# Altium footprint library DIP794W46P254L2967H457Q28B.PcbLib: 1 footprints
Each footprint in its own frame and in the unit in brackets; x right, y up, seen from the top. Pads: shape width x height; smd on the part's side, far side on the other; paste and mask are expansions set on the pad; w line width, h text height; cw(c..) or ccw(c..) is an arc to the next point about the centre after c.
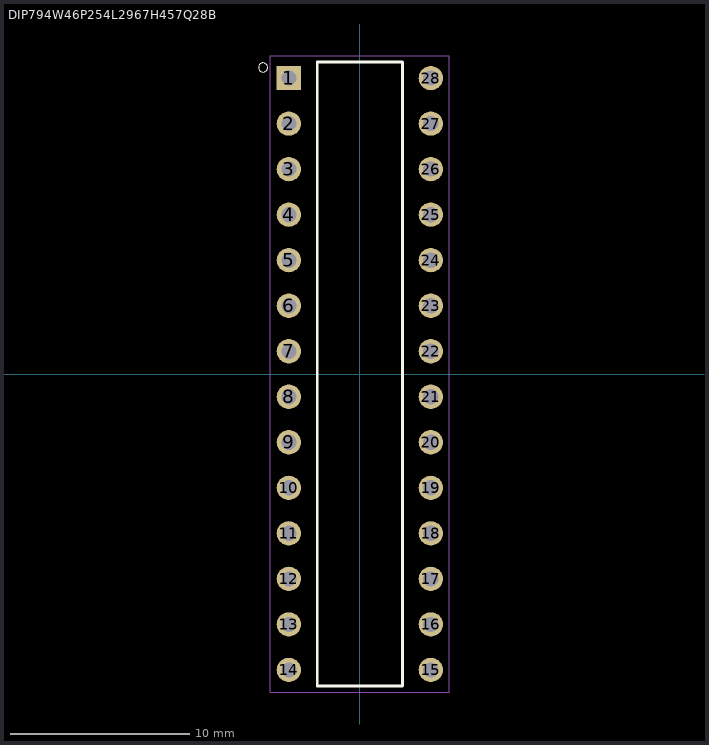
[diagram p0: the footprint, top view; thin cyan lines are the x and y axes]

## DIP794W46P254L2967H457Q28B [mm]
pads (28):
  rect 1.358x1.358 hole 0.85: 1(-3.96,16.51)
  round 1.358 hole 0.85: 2(-3.96,13.97) 3(-3.96,11.43) 4(-3.96,8.89) 5(-3.96,6.35) 6(-3.96,3.81) 7(-3.96,1.27) 8(-3.96,-1.27) 9(-3.96,-3.81) 10(-3.96,-6.35) 11(-3.96,-8.89) 12(-3.96,-11.43) 13(-3.96,-13.97) 14(-3.96,-16.51) 15(3.96,-16.51) 16(3.96,-13.97) 17(3.96,-11.43) 18(3.96,-8.89) 19(3.96,-6.35) 20(3.96,-3.81) 21(3.96,-1.27) 22(3.96,1.27) 23(3.96,3.81) 24(3.96,6.35) 25(3.96,8.89) 26(3.96,11.43) 27(3.96,13.97) 28(3.96,16.51)
Top Overlay:
  circle w0: c-5.4,17.1 r0.254
  lines w0.152: -2.38,-17.4 2.38,-17.4 2.38,17.4 -2.38,17.4 -2.38,-17.4
Mechanical 15:
  lines w0.05: -5,-17.75 -5,17.75 5,17.75 5,-17.75 -5,-17.75
3D body "ATMEGA328P-PN--3DModel-STEP-1.STEP": height 4.57, standoff -3.43, extent -5.08,-17.335 5.08,17.336